# Altium schematic symbol library PTV09A-4020U-B103.SchLib: 1 symbol
Pins are listed as number, name and electrical type; pins without a type are passive.

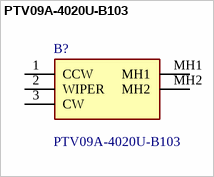
[diagram p0: symbol PTV09A-4020U-B103]

## PTV09A-4020U-B103
designator B?
Bourns 1 Gang Linear Carbon Potentiometer with a 6 mm Dia. Shaft, 10k, +/-20%, 0.05W, Linear PTV09A-4020U-B103; Geometry.Height: 15.5mm; Manufacturer_Name: Bourns; Manufacturer_Part_Number: PTV09A-4020U-B103; Mouser Part Number: 652-PTV09A-4020UB103; Mouser Price/Stock: https://www.mouser.co.uk/ProductDetail/Bourns/PTV09A-4020U-B103?qs=X8nz4ozed5jV1VKYmOgvXg%3D%3D; Arrow Part Number: PTV09A-4020U-B103; Arrow Price/Stock: https://www.arrow.com/en/products/ptv09a-4020u-b103/bourns?region=nac; Mouser Testing Part Number: *; Mouser Testing Price/Stock: *; Datasheet Link: https://www.bourns.com/docs/product-datasheets/PTV09.pdf
footprint PTV09A4015FB103
pins: 1 CCW, 2 WIPER, 3 CW, MH1, MH2